# Altium schematic symbol library ADS1282.SchLib: 1 symbol
Pins are listed as number, name and electrical type; pins without a type are passive.

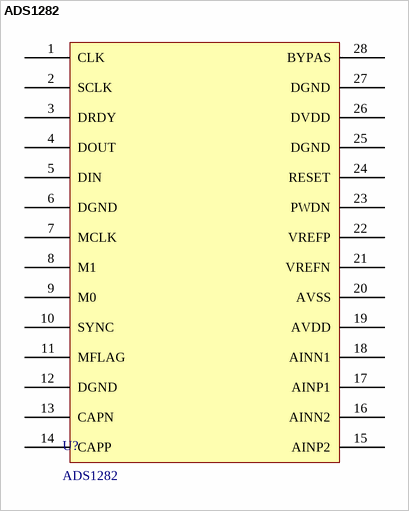
[diagram p0: symbol ADS1282]

## ADS1282
designator U?
footprint SSOP28_N (10.2*7.8*1.9mm(长宽高）)
pins: 1 CLK, 2 SCLK, 3 DRDY, 4 DOUT, 5 DIN, 6 DGND, 7 MCLK, 8 M1, 9 M0, 10 SYNC, 11 MFLAG, 12 DGND, 13 CAPN, 14 CAPP, 15 AINP2, 16 AINN2, 17 AINP1, 18 AINN1, 19 AVDD, 20 AVSS, 21 VREFN, 22 VREFP, 23 PWDN, 24 RESET, 25 DGND, 26 DVDD, 27 DGND, 28 BYPAS